# EAGLE library part M34570(36PIN) (library renesas_mcu)
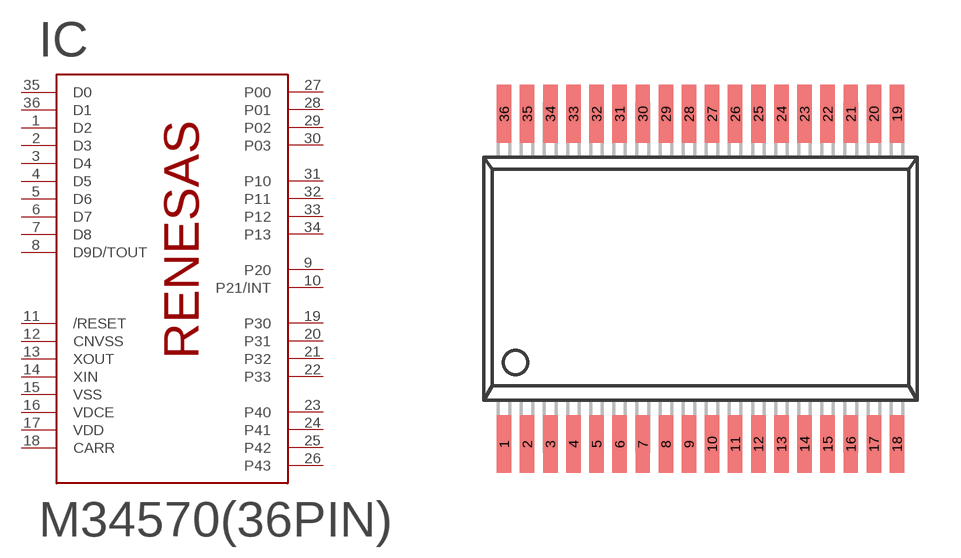
[diagram p58: symbol with the pads of 36P2R-A; footprint 36P2R-A]

Designator prefix IC

## M34570(36PIN)  [36P2R-A]
1  D2  out
2  D3  out
3  D4  out
4  D5  out
5  D6  out
6  D7  out
7  D8  out
8  D9D/TOUT  out
9  P20  in
10  P21/INT  in
11  /RESET
12  CNVSS
13  XOUT  out
14  XIN  in
15  VSS  in
16  VDCE  in
17  VDD  pwr
18  CARR  out
19  P30
20  P31
21  P32
22  P33
23  P40  in
24  P41  in
25  P42  in
26  P43  in
27  P00  in
28  P01
29  P02
30  P03
31  P10
32  P11
33  P12
34  P13
35  D0  out
36  D1  out

## Footprint 36P2R-A (pad centres in mm)
smd 0.5 x 2: 1 -6.8,-5.715; 2 -6,-5.715; 3 -5.2,-5.715; 4 -4.4,-5.715; 5 -3.6,-5.715; 6 -2.8,-5.715; 7 -2,-5.715; 8 -1.2,-5.715; 9 -0.4,-5.715; 10 0.4,-5.715; 11 1.2,-5.715; 12 2,-5.715; 13 2.8,-5.715; 14 3.6,-5.715; 15 4.4,-5.715; 16 5.2,-5.715; 17 6,-5.715; 18 6.8,-5.715; 19 6.8,5.715; 20 6,5.715; 21 5.2,5.715; 22 4.4,5.715; 23 3.6,5.715; 24 2.8,5.715; 25 2,5.715; 26 1.2,5.715; 27 0.4,5.715; 28 -0.4,5.715; 29 -1.2,5.715; 30 -2,5.715; 31 -2.8,5.715; 32 -3.6,5.715; 33 -4.4,5.715; 34 -5.2,5.715; 35 -6,5.715; 36 -6.8,5.715